# Altium schematic symbol library PPTC111LFBN-RC.SchLib: 2 symbols
Pins are listed as number, name and electrical type; pins without a type are passive.

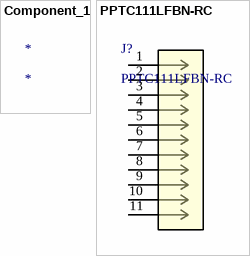
[diagram p0: symbols Component_1 to PPTC111LFBN-RC]

## Component_1
designator *

## PPTC111LFBN-RC
designator J?
No Description Available; Mfr_Name: Sullins; Type: DEV; Copyright: Copyright (C) 2023 Ultra Librarian. All rights reserved.; Manufacturer_Part_Number: PPTC111LFBN-RC; RefDes: RefDes
footprint CONN11_PPPN111_SUL
pins: 1, 2, 3, 4, 5, 6, 7, 8, 9, 10, 11